# EAGLE library part 2520 (library nw2s)
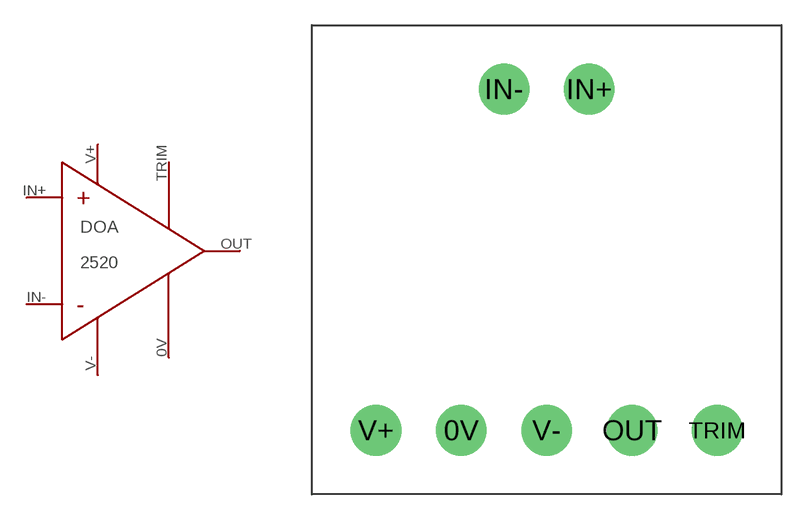
[diagram p17: symbol with the pads of 2520; footprint 2520]

Designator prefix DOA

## 2520  [2520]
0V  0V  pwr
IN+  IN+  in
IN-  IN-  in
OUT  OUT  out
TRIM  TRIM
V+  V+  pwr
V-  V-  pwr

## Footprint 2520 (pad centres in mm)
drill 2.007 pad 2.794: 0V -19.05,3.81; IN+ -11.43,24.13; IN- -16.51,24.13; OUT -8.89,3.81; TRIM -3.81,3.81; V+ -24.13,3.81; V- -13.97,3.81